# Altium footprint library CAPS.PcbLib: 166 footprints (part 4 of 11)
Each footprint in its own frame and in the unit in brackets; x right, y up, seen from the top. Pads: shape width x height; smd on the part's side, far side on the other; paste and mask are expansions set on the pad; w line width, h text height; cw(c..) or ccw(c..) is an arc to the next point about the centre after c.
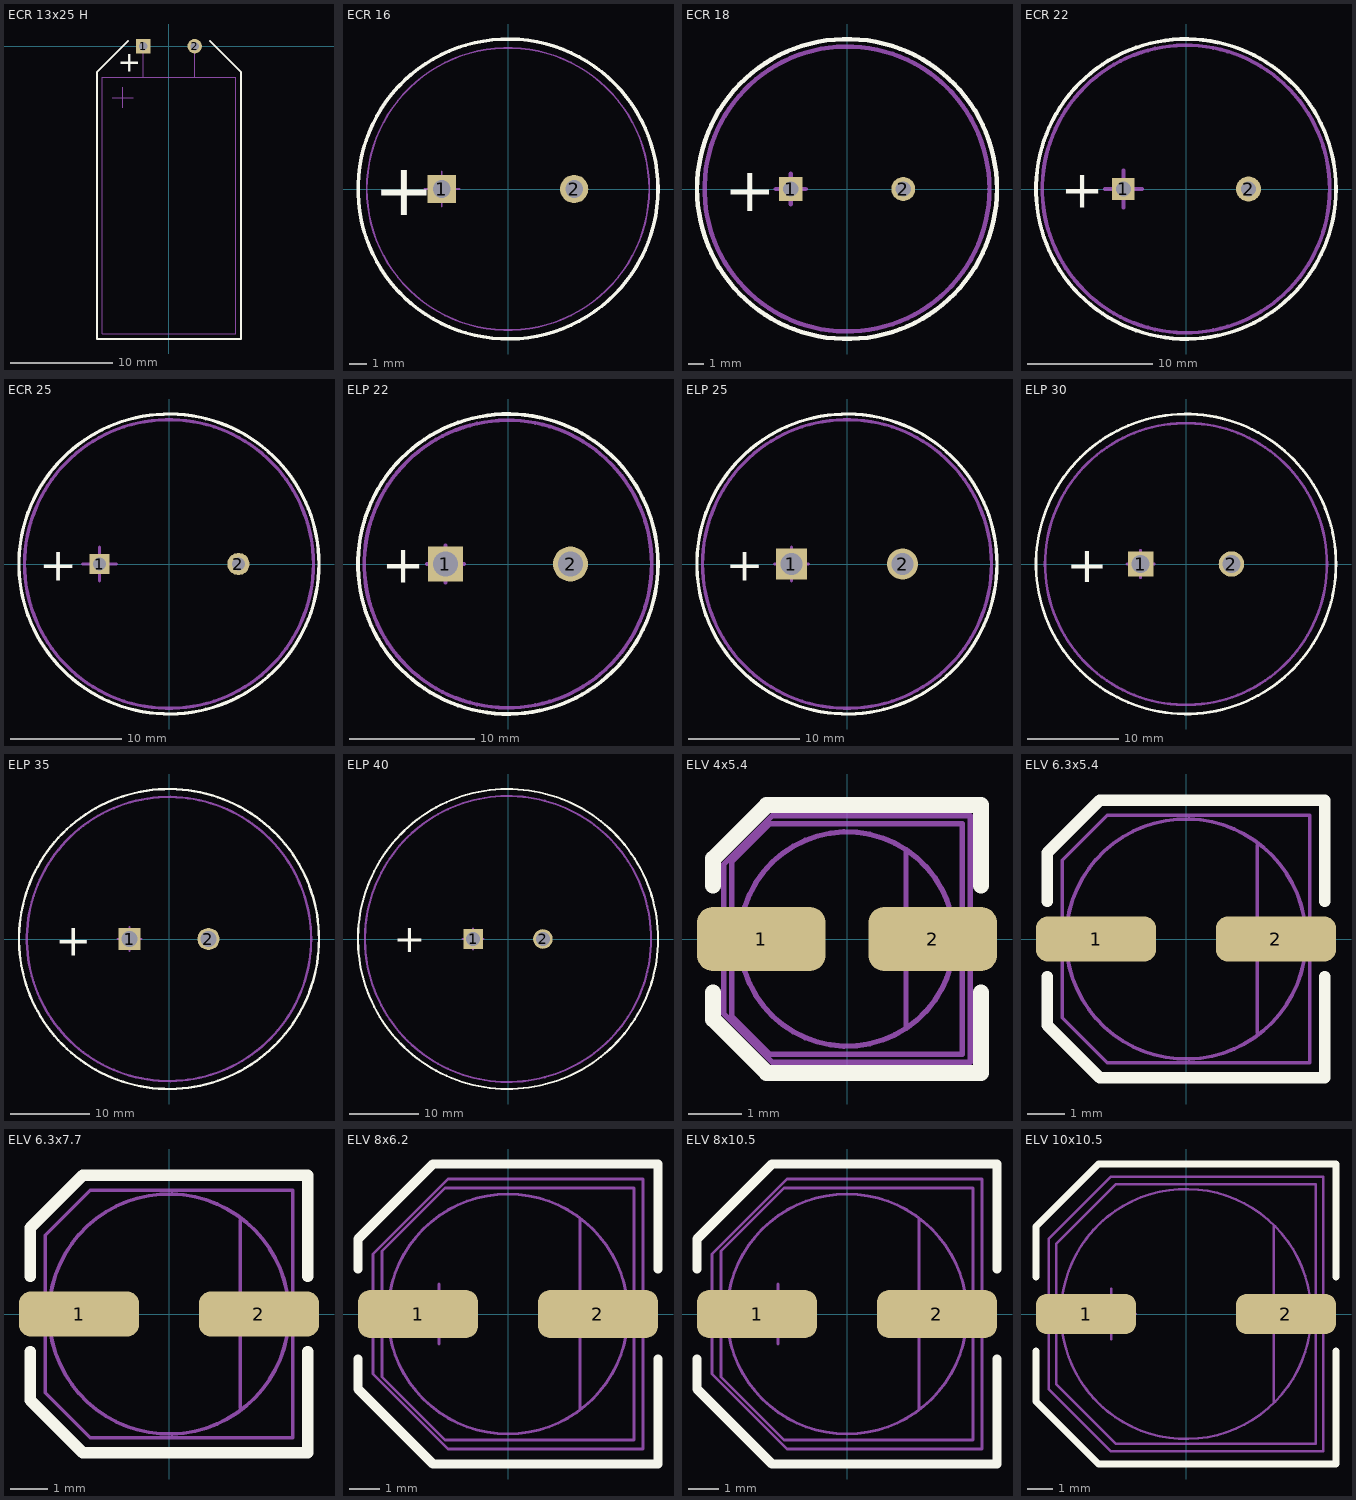
[diagram p3: the footprints below, top view; thin cyan lines are the x and y axes]

## ECR 13x25 H [mm]
height 13
pads (2):
  rect 1.4x1.4 hole 0.8: 1(-2.5,0)
  round 1.4 hole 0.8: 2(2.5,0)
Top Overlay:
  lines w0.2: -4,0.5 -7,-2.5 -7,-28.5 7,-28.5 7,-2.5 4,0.5
  text "+" at -5,-2.5 h2
Mechanical 1:
  lines w0.1: -5.5,-5 -3.5,-5 ; -4.5,-6 -4.5,-4 ; -2.5,-3 -2.5,0 ; 2.5,-3 2.5,0 ; -6.5,-28 -6.5,-3 6.5,-3 6.5,-28 -6.5,-28
3D body: height 12.99, standoff 0.01, extent -6.5,-28 6.5,-3

## ECR 16 [mm]
pads (2):
  rect 1.6x1.6 hole 1: 1(-3.75,0)
  round 1.6 hole 1: 2(3.75,0)
Top Overlay:
  circle w0.2: c0,0 r8.5
  text "+" at -7.6,-1.5 h3
Mechanical 1:
  circle w0.1: c0,0 r8
  lines w0.1: -4.75,0 -2.75,0 ; -3.75,-1 -3.75,1
3D body: height 20, standoff 0, extent -8,-7.99 8,7.99

## ECR 18 [mm]
pads (2):
  rect 1.6x1.6 hole 1: 1(-3.75,0)
  round 1.6 hole 1: 2(3.75,0)
Top Overlay:
  circle w0.3: c0,0 r10
  text "+" at -8.2,-1.5 h3
Mechanical 1:
  circle w0.3: c0,0 r9.5
  lines w0.3: -4.75,0 -2.75,0 ; -3.75,-1 -3.75,1

## ECR 22 [mm]
pads (2):
  rect 1.8x1.8 hole 1.2: 1(-5,0)
  round 2 hole 1.2: 2(5,0)
Top Overlay:
  circle w0.3: c0,0 r12
  text "+" at -10,-1.5 h3
Mechanical 1:
  circle w0.3: c0,0 r11.5
  lines w0.3: -6.5,0 -3.5,0 ; -5,-1.5 -5,1.5

## ECR 25 [mm]
pads (2):
  rect 1.8x1.8 hole 1.2: 1(-6.25,0)
  round 2 hole 1.2: 2(6.25,0)
Top Overlay:
  circle w0.3: c0,0 r13.5
  text "+" at -11.7,-1.5 h3
Mechanical 1:
  circle w0.3: c0,0 r13
  lines w0.3: -7.75,0 -4.75,0 ; -6.25,-1.5 -6.25,1.5

## ELP 22 [mm]
pads (2):
  rect 2.8x2.8 hole 2: 1(-5,0)
  round 2.8 hole 2: 2(5,0)
Top Overlay:
  circle w0.3: c0,0 r12
  text "+" at -10.1,-1.5 h3
Mechanical 1:
  circle w0.3: c0,0 r11.5
  lines w0.3: -6.5,0 -3.5,0 ; -5,-1.5 -5,1.5

## ELP 25 [mm]
pads (2):
  rect 2.8x2.8 hole 2: 1(-5,0)
  round 2.8 hole 2: 2(5,0)
Top Overlay:
  circle w0.3: c0,0 r13.5
  text "+" at -10.9,-1.5 h3
Mechanical 1:
  circle w0.3: c0,0 r13
  lines w0.3: -6.5,0 -3.5,0 ; -5,-1.5 -5,1.5

## ELP 30 [mm]
pads (2):
  rect 2.8x2.8 hole 2: 1(-5,0)
  round 2.8 hole 2: 2(5,0)
Top Overlay:
  circle w0.3: c0,0 r16.5
  text "+" at -13.2,-2 h4
Mechanical 1:
  circle w0.3: c0,0 r15.5
  lines w0.3: -6.5,0 -3.5,0 ; -5,-1.5 -5,1.5

## ELP 35 [mm]
pads (2):
  rect 2.8x2.8 hole 2: 1(-5,0)
  round 2.8 hole 2: 2(5,0)
Top Overlay:
  circle w0.3: c0,0 r19
  text "+" at -14.4,-2.1 h4
Mechanical 1:
  circle w0.3: c0,0 r18
  lines w0.3: -6.5,0 -3.5,0 ; -5,-1.5 -5,1.5

## ELP 40 [mm]
pads (2):
  rect 2.8x2.8 hole 2: 1(-5,0)
  round 2.8 hole 2: 2(5,0)
Top Overlay:
  circle w0.3: c0,0 r21.5
  text "+" at -16.4,-1.9 h4
Mechanical 1:
  circle w0.3: c0,0 r20.5
  lines w0.3: -6.5,0 -3.5,0 ; -5,-1.5 -5,1.5

## ELV 4x5.4 [mm]
height 5.5
pads (2):
  rrect50% 2.4x1.2 smd: 1(-1.6,0) 2(1.6,0)
Top Overlay:
  lines w0.3: -2.5,-1 -2.5,-1.5 -1.5,-2.5 2.5,-2.5 2.5,-1 ; -2.5,1 -2.5,1.5 -1.5,2.5 2.5,2.5 2.5,1
Mechanical 1:
  circle w0.1: c0,0 r2
  lines w0.1: -2.15,-0.4 -2.55,-0.4 -2.55,0.4 -2.15,0.4 ; -1.5,0 -0.5,0 ; -1,-0.5 -1,0.5 ; 1.1,-1.65 1.1,1.65 ; 2.15,-0.4 2.55,-0.4 2.55,0.4 2.15,0.4 ; -2.15,-1.45 -1.45,-2.15 2.15,-2.15 2.15,2.15 -1.45,2.15 -2.15,1.45 -2.15,-1.45
Mechanical 5:
  lines w0.1: -2.3,-1.4 -2.3,1.4 -1.4,2.3 2.3,2.3 2.3,-2.3 -1.4,-2.3 -2.3,-1.4
  text ".Designator" at -1.4,-0.7 h1.5
Mechanical 6:
  lines w0.1: -2.3,-1.4 -1.4,-2.3 2.3,-2.3 2.3,2.3 -1.4,2.3 -2.3,1.4 -2.3,-1.4
  text ".Comment" at -1.4,-0.7 h1.5
3D body: height 0.5, standoff 0, extent -2.6,-0.4 2.6,0.4
3D body: height 1.5, standoff 0.2, extent -2.2,-2.2 2.2,2.2
3D body: height 5.5, standoff 0.5, extent -2,-1.997 2,1.997

## ELV 6.3x5.4 [mm]
height 5.5
pads (2):
  rrect50% 3.2x1.2 smd: 1(-2.4,0) 2(2.4,0)
Top Overlay:
  lines w0.3: -3.7,-1 -3.7,-2.3 -2.3,-3.7 3.7,-3.7 3.7,-1 ; -3.7,1 -3.7,2.3 -2.3,3.7 3.7,3.7 3.7,1
Mechanical 1:
  circle w0.1: c0,0 r3.2
  lines w0.1: -3.3,-0.4 -3.7,-0.4 -3.7,0.4 -3.3,0.4 ; -2.6,0 -1.6,0 ; -2.1,-0.5 -2.1,0.5 ; 1.9,-2.5 1.9,2.5 ; 3.3,-0.4 3.7,-0.4 3.7,0.4 3.3,0.4 ; -3.3,-2.1 -2.1,-3.3 3.3,-3.3 3.3,3.3 -2.1,3.3 -3.3,2.1 -3.3,-2.1
Mechanical 5:
  lines w0.1: -3.3,-2.1 -3.3,2.1 -2.1,3.3 3.3,3.3 3.3,-3.3 -2.1,-3.3 -3.3,-2.1
  text ".Designator" at -1.4,-0.7 h1.5
Mechanical 6:
  lines w0.1: -3.3,-2.1 -2.1,-3.3 3.3,-3.3 3.3,3.3 -2.1,3.3 -3.3,2.1 -3.3,-2.1
  text ".Comment" at -1.4,-0.7 h1.5
3D body: height 0.5, standoff 0, extent -3.8,-0.4 3.8,0.4
3D body: height 1.5, standoff 0.2, extent -3.3,-3.3 3.3,3.3
3D body: height 5.5, standoff 0.5, extent -3.196,-3.199 3.2,3.199

## ELV 6.3x7.7 [mm]
height 7.7
pads (2):
  rrect50% 3.2x1.2 smd: 1(-2.4,0) 2(2.4,0)
Top Overlay:
  lines w0.3: -3.7,-1 -3.7,-2.3 -2.3,-3.7 3.7,-3.7 3.7,-1 ; -3.7,1 -3.7,2.3 -2.3,3.7 3.7,3.7 3.7,1
Mechanical 1:
  circle w0.1: c0,0 r3.2
  lines w0.1: -3.3,-0.4 -3.7,-0.4 -3.7,0.4 -3.3,0.4 ; -2.6,0 -1.6,0 ; -2.1,-0.5 -2.1,0.5 ; 1.9,-2.5 1.9,2.5 ; 3.3,-0.4 3.7,-0.4 3.7,0.4 3.3,0.4 ; -3.3,-2.1 -3.3,2.1 -2.1,3.3 3.3,3.3 3.3,-3.3 -2.1,-3.3 -3.3,-2.1
Mechanical 5:
  lines w0.1: -3.3,-2.1 -2.1,-3.3 3.3,-3.3 3.3,3.3 -2.1,3.3 -3.3,2.1 -3.3,-2.1
  text ".Designator" at -1.4,-0.7 h1.5
Mechanical 6:
  lines w0.1: -3.3,-2.1 -3.3,2.1 -2.1,3.3 3.3,3.3 3.3,-3.3 -2.1,-3.3 -3.3,-2.1
  text ".Comment" at -1.4,-0.7 h1.5
3D body: height 7.7, standoff 0.5, extent -3.2,-3.196 3.2,3.196
3D body: height 1.5, standoff 0.2, extent -3.3,-3.3 3.3,3.3
3D body: height 0.5, standoff 0, extent -3.8,-0.4 3.8,0.4

## ELV 8x6.2 [mm]
height 6.2
pads (2):
  rrect50% 4x1.6 smd: 1(-3,0) 2(3,0)
Top Overlay:
  lines w0.3: -5,-1.5 -5,-2.5 -2.5,-5 5,-5 5,-1.5 ; -5,1.5 -5,2.5 -2.5,5 5,5 5,1.5
Mechanical 1:
  circle w0.1: c0,0 r4
  lines w0.1: -4.2,-0.5 -4.6,-0.5 -4.6,0.5 -4.2,0.5 ; -3.3,0 -1.3,0 ; -2.3,-1 -2.3,1 ; 2.4,-3.2 2.4,3.2 ; 4.2,-0.5 4.6,-0.5 4.6,0.5 4.2,0.5 ; -4.2,-2.1 -2.1,-4.2 4.2,-4.2 4.2,4.2 -2.1,4.2 -4.2,2.1 -4.2,-2.1
Mechanical 5:
  lines w0.1: -4.5,-2 -2,-4.5 4.5,-4.5 4.5,4.5 -2,4.5 -4.5,2 -4.5,-2
  text ".Designator" at -2.7,-0.7 h1.5
Mechanical 6:
  lines w0.1: -4.5,-2 -4.5,2 -2,4.5 4.5,4.5 4.5,-4.5 -2,-4.5 -4.5,-2
  text ".Comment" at -2.7,-0.7 h1.5
3D body: height 6.2, standoff 0.5, extent -3.996,-3.999 4,3.999
3D body: height 2, standoff 0.2, extent -4.2,-4.2 4.2,4.2
3D body: height 0.5, standoff 0, extent -4.6,-0.5 4.6,0.5

## ELV 8x10.5 [mm]
height 10.5
pads (2):
  rrect50% 4x1.6 smd: 1(-3,0) 2(3,0)
Top Overlay:
  lines w0.3: -5,-1.5 -5,-2.5 -2.5,-5 5,-5 5,-1.5 ; -5,1.5 -5,2.5 -2.5,5 5,5 5,1.5
Mechanical 1:
  circle w0.1: c0,0 r4
  lines w0.1: -4.2,-0.5 -4.6,-0.5 -4.6,0.5 -4.2,0.5 ; -3.3,0 -1.3,0 ; -2.3,-1 -2.3,1 ; 2.4,-3.2 2.4,3.2 ; 4.2,-0.5 4.6,-0.5 4.6,0.5 4.2,0.5 ; -4.2,-2.1 -4.2,2.1 -2.1,4.2 4.2,4.2 4.2,-4.2 -2.1,-4.2 -4.2,-2.1
Mechanical 5:
  lines w0.1: -4.5,-2 -4.5,2 -2,4.5 4.5,4.5 4.5,-4.5 -2,-4.5 -4.5,-2
  text ".Designator" at -2.7,-0.7 h1.5
Mechanical 6:
  lines w0.1: -4.5,-2 -2,-4.5 4.5,-4.5 4.5,4.5 -2,4.5 -4.5,2 -4.5,-2
  text ".Comment" at -2.7,-0.7 h1.5
3D body: height 0.5, standoff 0, extent -4.6,-0.5 4.6,0.5
3D body: height 2, standoff 0.2, extent -4.2,-4.2 4.2,4.2
3D body: height 10.5, standoff 0.5, extent -4,-3.995 4,3.995

## ELV 10x10.5 [mm]
height 10.5
pads (2):
  rrect50% 4x1.6 smd: 1(-4,0) 2(4,0)
Top Overlay:
  lines w0.3: -6,-1.5 -6,-3.5 -3.5,-6 6,-6 6,-1.5 ; -6,1.5 -6,3.5 -3.5,6 6,6 6,1.5
Mechanical 1:
  circle w0.1: c0,0 r5
  lines w0.1: -5.2,-0.5 -5.6,-0.5 -5.6,0.5 -5.2,0.5 ; -4,0 -2,0 ; -3,-1 -3,1 ; 3.5,-3.5 3.5,3.5 ; 5.2,-0.5 5.6,-0.5 5.6,0.5 5.2,0.5 ; -5.2,-2.8 -5.2,2.8 -2.8,5.2 5.2,5.2 5.2,-5.2 -2.8,-5.2 -5.2,-2.8
Mechanical 5:
  lines w0.1: -5.5,-3 -5.5,3 -3,5.5 5.5,5.5 5.5,-5.5 -3,-5.5 -5.5,-3
  text ".Designator" at -3.9,-0.8 h1.5
Mechanical 6:
  lines w0.1: -5.5,-3 -3,-5.5 5.5,-5.5 5.5,5.5 -3,5.5 -5.5,3 -5.5,-3
  text ".Comment" at -3.9,-0.8 h1.5
3D body: height 0.5, standoff 0, extent -5.6,-0.5 5.6,0.5
3D body: height 2, standoff 0.2, extent -5.2,-5.2 5.2,5.2
3D body: height 10.5, standoff 0.5, extent -4.994,-4.999 5,4.999